# Altium footprint library smd_filters.PcbLib: 4 footprints
Each footprint in its own frame and in the unit in brackets; x right, y up, seen from the top. Pads: shape width x height; smd on the part's side, far side on the other; paste and mask are expansions set on the pad; w line width, h text height; cw(c..) or ccw(c..) is an arc to the next point about the centre after c.
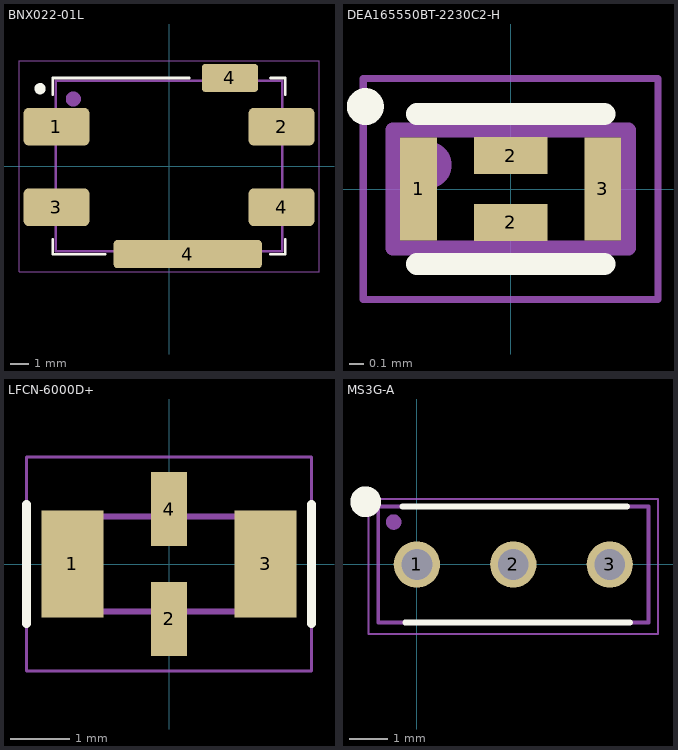
[diagram p0: the footprints below, top view; thin cyan lines are the x and y axes]

## BNX022-01L [mm]
pads (6):
  rrect25% 3.5x2 smd: 1(-6,2.1) 2(6,2.1) 3(-6,-2.2) 4(6,-2.2)
  rrect25% 7.9x1.5 smd: 4(1,-4.7)
  rrect25% 3x1.5 smd: 4(3.25,4.7)
Top Overlay:
  circle w0.4: c-6.875,4.125 r0.1
  lines w0.15: -6.2,-3.92 -6.2,-4.7 -3.42,-4.7 ; -6.2,3.82 -6.2,4.7 1.08,4.7 ; 5.42,-4.7 6.2,-4.7 6.2,-3.92 ; 5.42,4.7 6.2,4.7 6.2,3.82
Top Assembly:
  circle w0.4: c-5.1,3.575 r0.2
  lines w0.127: -6.05,-4.55 -6.05,4.55 6.05,4.55 6.05,-4.55 -6.05,-4.55
  text ".Designator" at -4.998,-0.333 h1
Top Courtyard (Mech15):
  lines w0.05: -8,-5.625 -8,5.625 8,5.625 8,-5.625 -8,-5.625
3D body "step_temp.STEP": height 3.3, standoff 0, extent -6.05,-4.55 6.05,4.55

## DEA165550BT-2230C2-H [mm]
pads (4):
  rect 0.25x0.7 smd: 1(-0.625,0) 3(0.625,0)
  rect 0.5x0.25 smd: 2(0,-0.227) 2(0,0.227)
Top Overlay:
  circle w0.15: c-0.986,0.56 r0.05
  lines w0.15: -0.635,-0.508 0.635,-0.508 ; -0.635,0.508 0.635,0.508
Top Assembly:
  circle w0.3: c-0.562,0.163 r0.01
  lines w0.1: -0.8,-0.4 0.8,-0.4 0.8,0.4 -0.8,0.4 -0.8,-0.4
  text ".Designator" at -4.998,-0.333 h1
Top Courtyard (Mech15):
  lines w0.05: -1,-0.75 1,-0.75 1,0.75 -1,0.75 -1,-0.75
3D body: height 0.6, standoff 0, extent -0.8,-0.4 0.8,0.4

## LFCN-6000D+ [mm]
pads (4):
  rect 1.04x1.8 smd: 1(-1.625,0) 3(1.625,0)
  rect 0.61x1.245 smd: 2(0,-0.925) 4(0,0.925)
Top Overlay:
  lines w0.15: -2.4,-1 -2.4,1 ; 2.4,-1 2.4,1
Top Assembly:
  lines w0.1: -1.6,-0.8 1.6,-0.8 1.6,0.8 -1.6,0.8 -1.6,-0.8
  text ".Designator" at -4.998,-0.333 h1
Top Courtyard (Mech15):
  lines w0.05: -2.4,-1.8 2.4,-1.8 2.4,1.8 -2.4,1.8 -2.4,-1.8
3D body: height 0.94, standoff 0, extent -1.6,-0.8 1.6,0.8

## MS3G-A [mm]
pads (3):
  round 1.2 hole 0.8: 1(0,0) 2(2.5,0) 3(5,0)
Top Overlay:
  circle w0.4: c-1.325,1.625 r0.2
  lines w0.15: -0.375,1.5 5.45,1.5 ; -0.3,-1.5 5.525,-1.5
Top Courtyard:
  lines w0.05: -1.25,-1.8 -1.25,1.7 0.85,1.7 6.25,1.7 6.25,-1.8 -1.25,-1.8
Top Assembly:
  circle w0.2: c-0.6,1.1 r0.1
  lines w0.1: -1,-1.5 -1,1.5 6,1.5 6,-1.5 -1,-1.5
  text ".Designator" at -4.998,-0.333 h1
3D body "SFE10.7MX3G-A.stp": height 14, standoff -1, extent -1,-1.5 6,1.5